# Altium footprint library First_PCB_dip.PcbLib: 4 footprints
Each footprint in its own frame and in the unit in brackets; x right, y up, seen from the top. Pads: shape width x height; smd on the part's side, far side on the other; paste and mask are expansions set on the pad; w line width, h text height; cw(c..) or ccw(c..) is an arc to the next point about the centre after c.
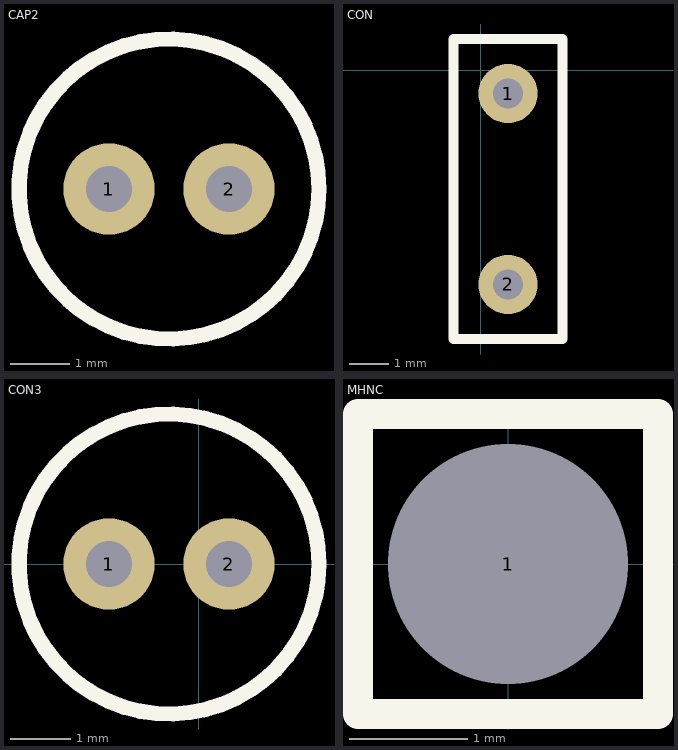
[diagram p0: the footprints below, top view; thin cyan lines are the x and y axes]

## CAP2 [mil]
height 590.55
pads (2):
  round 60 hole 30: 1(10421.26,23232.28) 2(10500,23232.28)
Top Overlay:
  circle w10: c10460.63,23232.28 r98.43

## CON [mil]
height 236.22
pads (2):
  round 60 hole 30: 1(27.56,-23.62) 2(27.56,-216.54)
Top Overlay:
  lines w10: -27.56,-271.65 82.68,-271.65 82.68,31.5 -27.56,31.5 -27.56,-271.65

## CON3 [mil]
pads (2):
  round 60 hole 30: 1(-59.06,0) 2(19.68,0)
Top Overlay:
  circle w10: c-19.68,0 r98.43

## MHNC [mil] "Mounting hole no copper"
pads (1):
  round 40 hole 80: 1(0,0)
Top Overlay:
  lines w10: -50,-50 -22.5,-50 22.5,-50 50,-50 50,-22.5 50,22.5 50,50 22.5,50 -22.5,50 -50,50 -50,22.5 -50,-22.5 -50,-50